# EAGLE library part LTC3822-1 (library PowerProducts)
No RSENSE, Low Input Voltage, Synchronous Step-Down DC/DC Controller
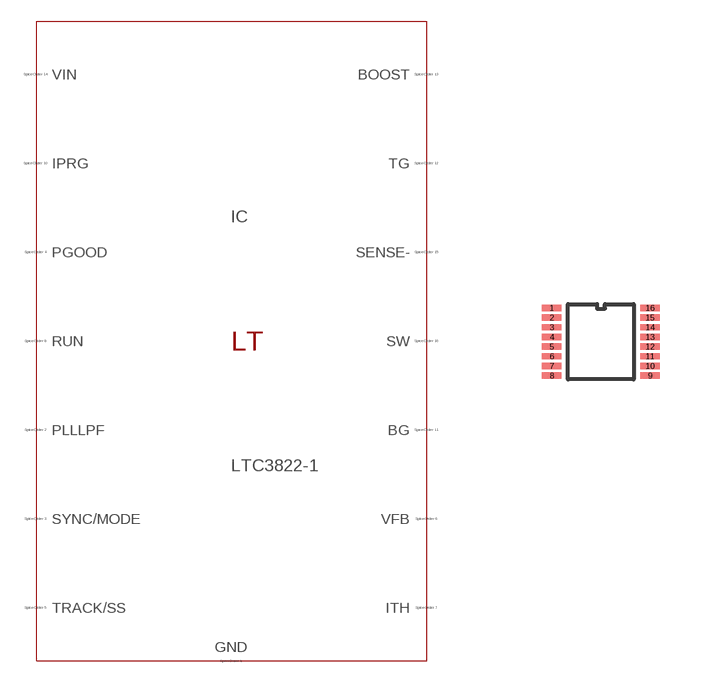
[diagram p348: symbol with the pads of SSOP16(GN); footprint SSOP16(GN)]

Designator prefix IC

## LTC3822-1 (SPICEMODEL: LTC3822-1.sub; SPICEPREFIX: X; VALUE2: LTC3822-1)  [SSOP16(GN)]
1  GND  pas
2  PLLLPF  pas
3  SYNC/MODE  pas
4  PGOOD  pas
5  TRACK/SS  pas
6  VFB  pas
7  ITH  pas
8  RUN  pas
9  GND  pas
10  IPRG  pas
11  BG  pas
12  TG  pas
13  BOOST  pas
14  VIN  pas
15  SENSE-  pas
16  SW  pas

## Footprint SSOP16(GN) (pad centres in mm)
Package generated from: SSOP16(GN).asc (!PADS-POWERPCB-V5.0-BASIC! DESIGN DATABASE ASCII FILE 1.0) with :import-pads-powerpcb-v5.ulp Version 1.0.1 at 04.10.2012 14:11:37
smd 0.484 x 0.16: 1 -1.229,0.847; 2 -1.229,0.605; 3 -1.229,0.363; 4 -1.229,0.121; 5 -1.229,-0.121; 6 -1.229,-0.363; 7 -1.229,-0.605; 8 -1.229,-0.847; 9 1.229,-0.847; 10 1.229,-0.605; 11 1.229,-0.363; 12 1.229,-0.121; 13 1.229,0.121; 14 1.229,0.363; 15 1.229,0.605; 16 1.229,0.847